# Altium integrated library Analog Devices Data Converters Analog-to-Digital Converters.IntLib: 2400 symbols (part 321 of 338)
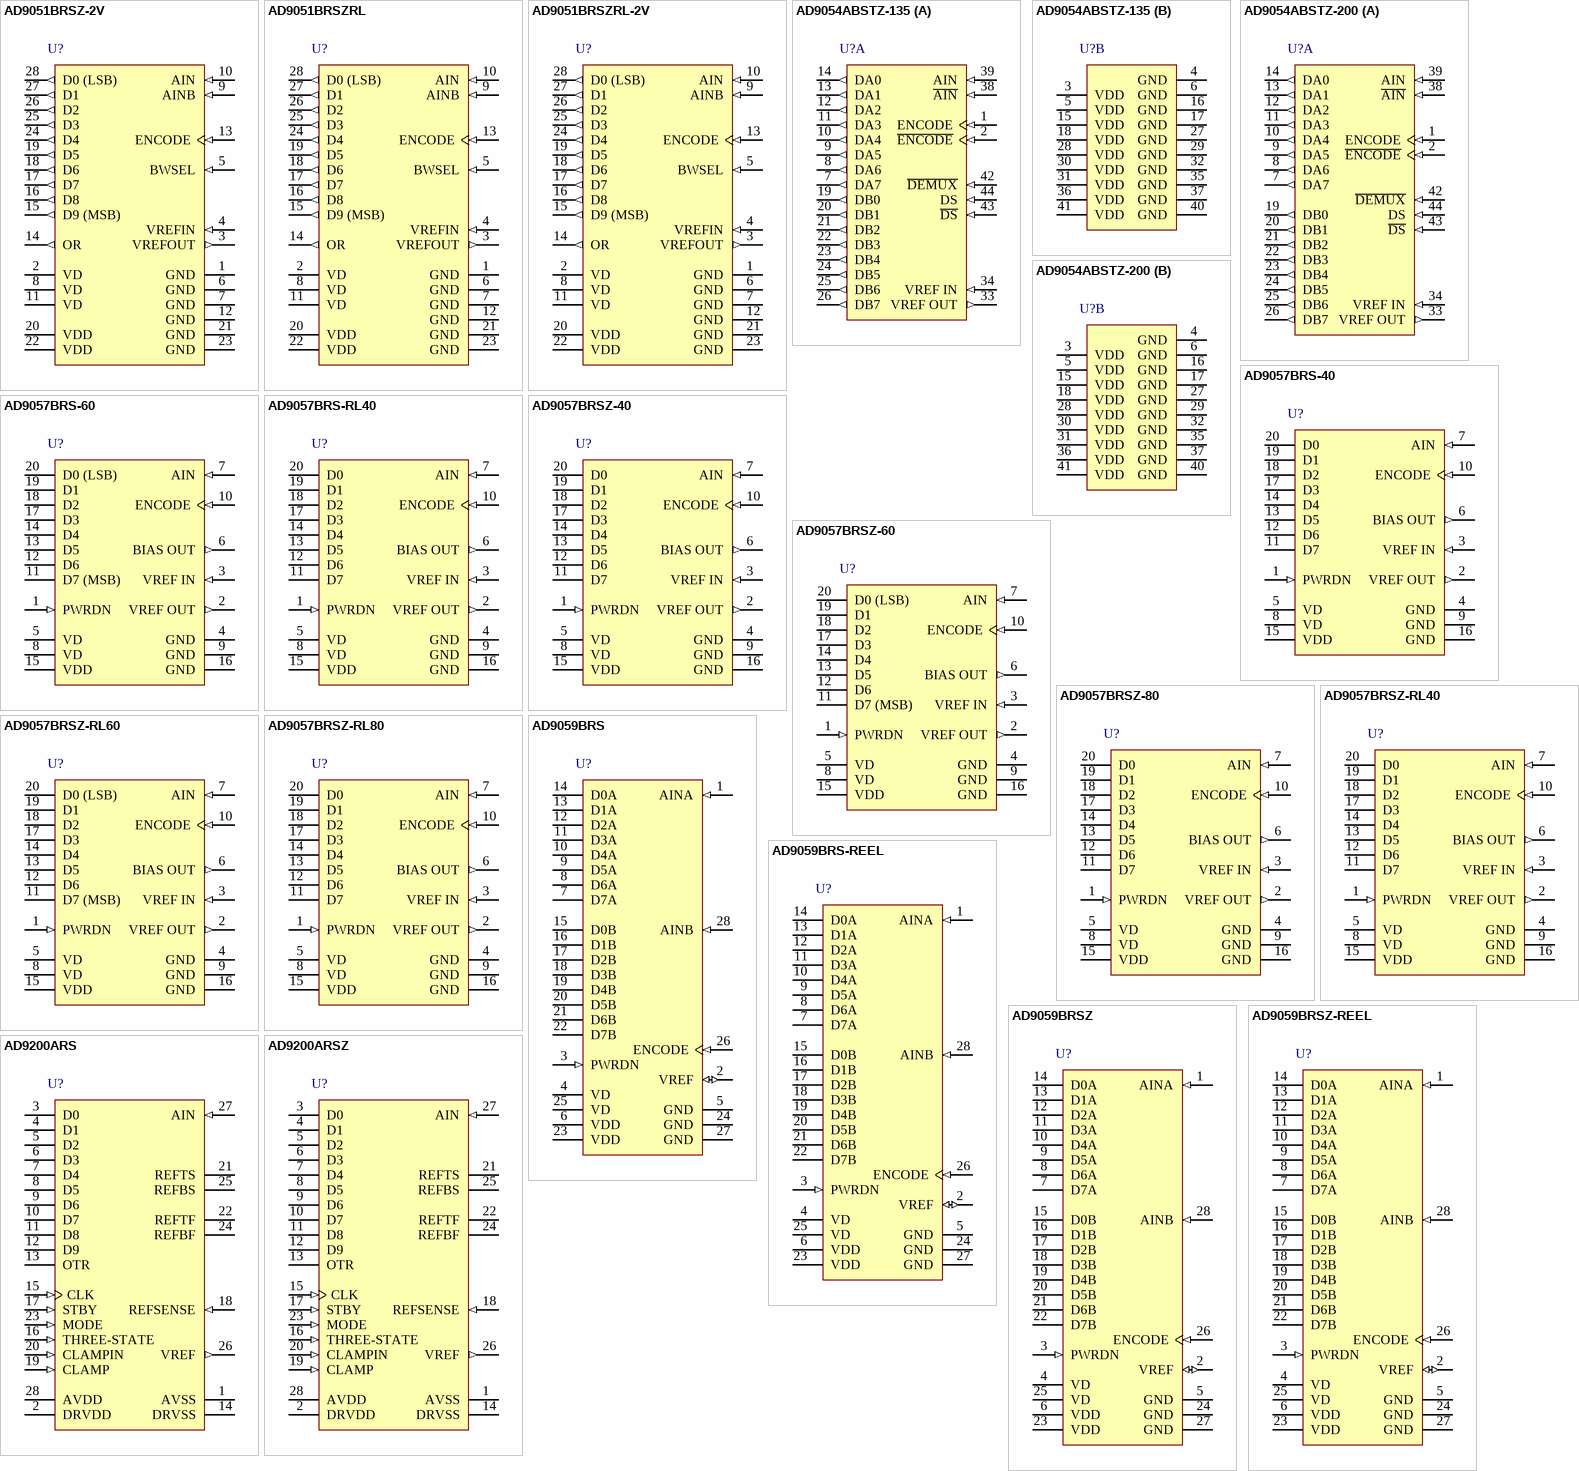
[diagram p330: symbols AD9051BRSZ-2V to AD9200ARSZ]

## AD9054ABSTZ-135
designator U?
Single 8-Bit Analog-to-Digital Converter with Parallel Interface, 135MSPS, -40 to +85 degC, ST-44-1, Pb-Free, Tray; Part Number: AD9054A-135; Manufacturer: Analog Devices; Resolution (Bits): 8; Channels: 1; Throughput Rate (SPS): 135M; Interface: Par; DatasheetVersion: Rev.D; PackageVersion: 051706-A; PackageReference: ST-44-1; PackageDescription: 44-Lead Low Profile Quad Flat Package [LQFP]; RoHS: Y; Packing: Tray; Mounting Technology: Surface Mount; ComponentLink1Description: Manufacturer URL; ComponentLink1URL: http://www.analog.com/en/index.html; ComponentLink2Description: Datasheet; ComponentLink2URL: http://www.analog.com/static/imported-files/data_sheets/AD9054A.pdf; ComponentLink3Description: Package Specification; ComponentLink3URL: http://www.analog.com/static/imported-files/packages/52366619645036ST_44_1.pdf; ComponentLink4Description: Product URL; ComponentLink4URL: http://www.analog.com/en/analog-to-digital-converters/ad-converters/ad9054a/products/product.html
footprint ST-44-1_N (Thin QFP, 44-Leads, Body 10x10mm, Pitch 0.8mm, IPC Medium Density)
footprint ST-44-1_L (Thin QFP, 44-Leads, Body 10x10mm, Pitch 0.8mm, IPC High Density)
footprint ST-44-1_M (Thin QFP, 44-Leads, Body 10x10mm, Pitch 0.8mm, IPC Low Density)
part A pins: 1 ENCODE (in) "Encode Clock for ADC (ADC Samples on Rising Edge of ENCODE)", 2 ~{ENCODE} (in) "Encode Clock Complement (ADC Samples on Falling Edge of E\N\C\O\D\E\)", 7 DA7 (out) "Digital Outputs of ADC Channel A. DA7 is the MSB, DA0 the LSB", 8 DA6 (out) "Digital Outputs of ADC Channel A. DA7 is the MSB, DA0 the LSB", 9 DA5 (out) "Digital Outputs of ADC Channel A. DA7 is the MSB, DA0 the LSB", 10 DA4 (out) "Digital Outputs of ADC Channel A. DA7 is the MSB, DA0 the LSB", 11 DA3 (out) "Digital Outputs of ADC Channel A. DA7 is the MSB, DA0 the LSB", 12 DA2 (out) "Digital Outputs of ADC Channel A. DA7 is the MSB, DA0 the LSB", 13 DA1 (out) "Digital Outputs of ADC Channel A. DA7 is the MSB, DA0 the LSB", 14 DA0 (out) "Digital Outputs of ADC Channel A. DA7 is the MSB, DA0 the LSB", 19 DB0 (out) "Digital Outputs of ADC Channel B. DB7 is the MSB, DB0 the LSB", 20 DB1 (out) "Digital Outputs of ADC Channel B. DB7 is the MSB, DB0 the LSB", 21 DB2 (out) "Digital Outputs of ADC Channel B. DB7 is the MSB, DB0 the LSB", 22 DB3 (out) "Digital Outputs of ADC Channel B. DB7 is the MSB, DB0 the LSB", 23 DB4 (out) "Digital Outputs of ADC Channel B. DB7 is the MSB, DB0 the LSB", 24 DB5 (out) "Digital Outputs of ADC Channel B. DB7 is the MSB, DB0 the LSB", 25 DB6 (out) "Digital Outputs of ADC Channel B. DB7 is the MSB, DB0 the LSB", 26 DB7 (out) "Digital Outputs of ADC Channel B. DB7 is the MSB, DB0 the LSB", 33 VREF OUT (out) "Internal Reference Output (2.5 V typical); Bypass with 0.1 uF to Ground", 34 VREF IN (in) "Reference Input for ADC (2.5 V typical, +/-4%)", 38 ~{AIN} (in) "Analog Input--Complement. Connect to input signal midscale reference.", 39 AIN (in) "Analog Input--True", 42 ~{DEMUX} (in) "Format Select. LOW = Dual. Channel Mode, HIGH = Single. Channel Mode (Channel A Only)", 43 ~{DS} (in) "Data Sync Complement", 44 DS (in) "Data Sync--Aligns Output Channels in Dual-Channel Mode"
part B pins: 3 VDD (power) "Power Supply (5 V)", 4 GND (power) "Ground", 5 VDD (power) "Power Supply (5 V)", 6 GND (power) "Ground", 15 VDD (power) "Power Supply (5 V)", 16 GND (power) "Ground", 17 GND (power) "Ground", 18 VDD (power) "Power Supply (5 V)", 27 GND (power) "Ground", 28 VDD (power) "Power Supply (5 V)", 29 GND (power) "Ground", 30 VDD (power) "Power Supply (5 V)", 31 VDD (power) "Power Supply (5 V)", 32 GND (power) "Ground", 35 GND (power) "Ground", 36 VDD (power) "Power Supply (5 V)", 37 GND (power) "Ground", 40 GND (power) "Ground", 41 VDD (power) "Power Supply (5 V)"

## AD9054ABSTZ-200
designator U?
Single 8-Bit Analog-to-Digital Converter with Parallel Interface, 200MSPS, -40 to +85 degC, ST-44-1, Pb-Free, Tray; Part Number: AD9054A-200; Manufacturer: Analog Devices; Resolution (Bits): 8; Channels: 1; Throughput Rate (SPS): 200M; Interface: Par; DatasheetVersion: Rev.D; PackageVersion: 051706-A; PackageReference: ST-44-1; PackageDescription: 44-Lead Low Profile Quad Flat Package [LQFP]; RoHS: Y; Packing: Tray; Mounting Technology: Surface Mount; ComponentLink1Description: Manufacturer URL; ComponentLink1URL: http://www.analog.com/en/index.html; ComponentLink2Description: Datasheet; ComponentLink2URL: http://www.analog.com/static/imported-files/data_sheets/AD9054A.pdf; ComponentLink3Description: Package Specification; ComponentLink3URL: http://www.analog.com/static/imported-files/packages/52366619645036ST_44_1.pdf; ComponentLink4Description: Product URL; ComponentLink4URL: http://www.analog.com/en/analog-to-digital-converters/ad-converters/ad9054a/products/product.html
footprint ST-44-1_N (Thin QFP, 44-Leads, Body 10x10mm, Pitch 0.8mm, IPC Medium Density)
footprint ST-44-1_L (Thin QFP, 44-Leads, Body 10x10mm, Pitch 0.8mm, IPC High Density)
footprint ST-44-1_M (Thin QFP, 44-Leads, Body 10x10mm, Pitch 0.8mm, IPC Low Density)
part A pins: 1 ENCODE (in) "Encode Clock for ADC (ADC Samples on Rising Edge of ENCODE)", 2 ~{ENCODE} (in) "Encode Clock Complement (ADC Samples on Falling Edge of E\N\C\O\D\E\)", 7 DA7 (out) "Digital Outputs of ADC Channel A. DA7 is the MSB.", 8 DA6 (out) "Digital Outputs of ADC Channel A.", 9 DA5 (out) "Digital Outputs of ADC Channel A.", 10 DA4 (out) "Digital Outputs of ADC Channel A.", 11 DA3 (out) "Digital Outputs of ADC Channel A.", 12 DA2 (out) "Digital Outputs of ADC Channel A.", 13 DA1 (out) "Digital Outputs of ADC Channel A.", 14 DA0 (out) "Digital Outputs of ADC Channel A. DA0 is the LSB.", 19 DB0 (out) "Digital Outputs of ADC Channel B. DB0 is the LSB", 20 DB1 (out) "Digital Outputs of ADC Channel B.", 21 DB2 (out) "Digital Outputs of ADC Channel B.", 22 DB3 (out) "Digital Outputs of ADC Channel B.", 23 DB4 (out) "Digital Outputs of ADC Channel B.", 24 DB5 (out) "Digital Outputs of ADC Channel B.", 25 DB6 (out) "Digital Outputs of ADC Channel B.", 26 DB7 (out) "Digital Outputs of ADC Channel B. DB7 is the MSB.", 33 VREF OUT (out) "Internal Reference Output (2.5 V typical); Bypass with 0.1 uF to Ground", 34 VREF IN (in) "Reference Input for ADC (2.5 V typical, +/-4%)", 38 ~{AIN} (in) "Analog Input--Complement. Connect to input signal midscale reference.", 39 AIN (in) "Analog Input--True", 42 ~{DEMUX} (in) "Format Select. LOW = Dual. Channel Mode, HIGH = Single. Channel Mode (Channel A Only)", 43 ~{DS} (in) "Data Sync Complement", 44 DS (in) "Data Sync--Aligns Output Channels in Dual-Channel Mode"
part B pins: 3 VDD (power) "Power Supply (5 V)", 4 GND (power) "Ground", 5 VDD (power) "Power Supply (5 V)", 6 GND (power) "Ground", 15 VDD (power) "Power Supply (5 V)", 16 GND (power) "Ground", 17 GND (power) "Ground", 18 VDD (power) "Power Supply (5 V)", 27 GND (power) "Ground", 28 VDD (power) "Power Supply (5 V)", 29 GND (power) "Ground", 30 VDD (power) "Power Supply (5 V)", 31 VDD (power) "Power Supply (5 V)", 32 GND (power) "Ground", 35 GND (power) "Ground", 36 VDD (power) "Power Supply (5 V)", 37 GND (power) "Ground", 40 GND (power) "Ground", 41 VDD (power) "Power Supply (5 V)"

## AD9057BRS-40
designator U?
Single 8-Bit Analog-to-Digital Converter with Parallel Interface, 40MSPS, 0 to +70 degC, RS-20, Tube; Part Number: AD9057-40; Manufacturer: Analog Devices; Resolution (Bits): 8; Channels: 1; Throughput Rate (SPS): 40M; Interface: Par; DatasheetVersion: Rev.D; PackageVersion: Mar-2003; PackageReference: RS-20; PackageDescription: 20-Lead Shrink Small Outline Package [SSOP]; RoHS: N; Packing: Tube; Mounting Technology: Surface Mount; Code_JEDEC: MO-150AE; ComponentLink1Description: Manufacturer URL; ComponentLink1URL: http://www.analog.com/en/index.html; ComponentLink2Description: Datasheet; ComponentLink2URL: http://www.analog.com/static/imported-files/data_sheets/AD9057.pdf; ComponentLink3Description: Package Specification; ComponentLink3URL: http://www.analog.com/static/imported-files/packages/318405805657546556503576154334802686596RS_20.pdf; ComponentLink4Description: Product URL; ComponentLink4URL: http://www.analog.com/en/analog-to-digital-converters/ad-converters/ad9057/products/product.html
footprint RS-20_N (SOP, 20-Leads, Body 7.2x5.3mm, Pitch 0.65mm, IPC Medium Density)
footprint RS-20_L (SOP, 20-Leads, Body 7.2x5.3mm, Pitch 0.65mm, IPC High Density)
footprint RS-20_M (SOP, 20-Leads, Body 7.2x5.3mm, Pitch 0.65mm, IPC Low Density)
pins: 1 PWRDN (in) "Power-Down Function Select;Logic High for Power-Down Mode (Digital Outputs Go to High Impedance State).", 2 VREF OUT (out) "Internal Reference Output (2.5 V typ); Bypass with 0.1 uF to Ground.", 3 VREF IN (in) "Reference Input for ADC (2.5 V typ, +/-10%).", 4 GND (power) "Ground (Analog/Digital).", 5 VD (power) "Analog 5 V Power Supply.", 6 BIAS OUT (out) "Bias Pin for AC Coupling (1 kW to REF IN)", 7 AIN (in) "Analog Input for ADC.", 8 VD (power) "Analog 5 V Power Supply.", 9 GND (power) "Ground (Analog/Digital).", 10 ENCODE (in) "Encode Clock for ADC (ADC Samples on Rising Edge of Encode).", 11 D7 (hiz) "Digital Outputs of ADC.", 12 D6 (hiz) "Digital Outputs of ADC", 13 D5 (hiz) "Digital Outputs of ADC", 14 D4 (hiz) "Digital Outputs of ADC", 15 VDD (power) "Digital Output Power Supply; Nominally 3 V to 5 V.", 16 GND (power) "Ground (Analog/Digital).", 17 D3 (hiz) "Digital Outputs of ADC", 18 D2 (hiz) "Digital Outputs of ADC", 19 D1 (hiz) "Digital Outputs of ADC", 20 D0 (hiz) "Digital Outputs of ADC"

## AD9057BRS-60
designator U?
Single 8-Bit Analog-to-Digital Converter with Parallel Interface, 60MSPS, -40 to +85 degC, RS-20, Tube; Part Number: AD9057-60; Manufacturer: Analog Devices; Resolution (Bits): 8; Channels: 1; Throughput Rate (SPS): 60M; Interface: Par; DatasheetVersion: Rev.D; PackageVersion: Mar-2003; PackageReference: RS-20; PackageDescription: 20-Lead Shrink Small Outline Package [SSOP]; RoHS: N; Packing: Tube; Mounting Technology: Surface Mount; Code_JEDEC: MO-150AE; ComponentLink1Description: Manufacturer URL; ComponentLink1URL: http://www.analog.com/en/index.html; ComponentLink2Description: Datasheet; ComponentLink2URL: http://www.analog.com/static/imported-files/data_sheets/AD9057.pdf; ComponentLink3Description: Package Specification; ComponentLink3URL: http://www.analog.com/static/imported-files/packages/318405805657546556503576154334802686596RS_20.pdf; ComponentLink4Description: Product URL; ComponentLink4URL: http://www.analog.com/en/analog-to-digital-converters/ad-converters/ad9057/products/product.html
footprint RS-20_N (SOP, 20-Leads, Body 7.2x5.3mm, Pitch 0.65mm, IPC Medium Density)
footprint RS-20_L (SOP, 20-Leads, Body 7.2x5.3mm, Pitch 0.65mm, IPC High Density)
footprint RS-20_M (SOP, 20-Leads, Body 7.2x5.3mm, Pitch 0.65mm, IPC Low Density)
pins: 1 PWRDN (in) "Power-Down Function Select;Logic High for Power-Down Mode (Digital Outputs Go to High Impedance State).", 2 VREF OUT (out) "Internal Reference Output (2.5 V typ); Bypass with 0.1 uF to Ground.", 3 VREF IN (in) "Reference Input for ADC (2.5 V typ, +/-10%).", 4 GND (power) "Ground (Analog/Digital).", 5 VD (power) "Analog 5 V Power Supply.", 6 BIAS OUT (out) "Bias Pin for AC Coupling (1 kW to REF IN).", 7 AIN (in) "Analog Input for ADC.", 8 VD (power) "Analog 5 V Power Supply", 9 GND (power) "Ground (Analog/Digital).", 10 ENCODE (in) "Encode Clock for ADC (ADC Samples on Rising Edge of Encode).", 11 D7 (MSB) (hiz) "Digital Outputs of ADC.", 12 D6 (hiz) "Digital Outputs of ADC.", 13 D5 (hiz) "Digital Outputs of ADC.", 14 D4 (hiz) "Digital Outputs of ADC.", 15 VDD (power) "Digital Output Power Supply;Nominally 3 V to 5 V.", 16 GND (power) "Ground (Analog/Digital).", 17 D3 (hiz) "Digital Outputs of ADC.", 18 D2 (hiz) "Digital Outputs of ADC.", 19 D1 (hiz) "Digital Outputs of ADC.", 20 D0 (LSB) (hiz) "Digital Outputs of ADC."

## AD9057BRS-RL40
designator U?
Single 8-Bit Analog-to-Digital Converter with Parallel Interface, 40MSPS, -40 to +85 degC, RS-20, Reel; Part Number: AD9057-40; Manufacturer: Analog Devices; Resolution (Bits): 8; Channels: 1; Throughput Rate (SPS): 40M; Interface: Par; DatasheetVersion: Rev.D; PackageVersion: Mar-2003; PackageReference: RS-20; PackageDescription: 20-Lead Shrink Small Outline Package [SSOP]; RoHS: N; Packing: Reel; Mounting Technology: Surface Mount; Code_JEDEC: MO-150AE; ComponentLink1Description: Manufacturer URL; ComponentLink1URL: http://www.analog.com/en/index.html; ComponentLink2Description: Datasheet; ComponentLink2URL: http://www.analog.com/static/imported-files/data_sheets/AD9057.pdf; ComponentLink3Description: Package Specification; ComponentLink3URL: http://www.analog.com/static/imported-files/packages/318405805657546556503576154334802686596RS_20.pdf; ComponentLink4Description: Product URL; ComponentLink4URL: http://www.analog.com/en/analog-to-digital-converters/ad-converters/ad9057/products/product.html
footprint RS-20_N (SOP, 20-Leads, Body 7.2x5.3mm, Pitch 0.65mm, IPC Medium Density)
footprint RS-20_L (SOP, 20-Leads, Body 7.2x5.3mm, Pitch 0.65mm, IPC High Density)
footprint RS-20_M (SOP, 20-Leads, Body 7.2x5.3mm, Pitch 0.65mm, IPC Low Density)
pins: 1 PWRDN (in) "Power-Down Function Select;Logic High for Power-Down Mode (Digital Outputs Go to High Impedance State).", 2 VREF OUT (out) "Internal Reference Output (2.5 V typ); Bypass with 0.1 uF to Ground.", 3 VREF IN (in) "Reference Input for ADC (2.5 V typ, +/-10%).", 4 GND (power) "Ground (Analog/Digital).", 5 VD (power) "Analog 5 V Power Supply.", 6 BIAS OUT (out) "Bias Pin for AC Coupling (1 kW to REF IN)", 7 AIN (in) "Analog Input for ADC.", 8 VD (power) "Analog 5 V Power Supply.", 9 GND (power) "Ground (Analog/Digital).", 10 ENCODE (in) "Encode Clock for ADC (ADC Samples on Rising Edge of Encode).", 11 D7 (hiz) "Digital Outputs of ADC.", 12 D6 (hiz) "Digital Outputs of ADC", 13 D5 (hiz) "Digital Outputs of ADC", 14 D4 (hiz) "Digital Outputs of ADC", 15 VDD (power) "Digital Output Power Supply; Nominally 3 V to 5 V.", 16 GND (power) "Ground (Analog/Digital).", 17 D3 (hiz) "Digital Outputs of ADC", 18 D2 (hiz) "Digital Outputs of ADC", 19 D1 (hiz) "Digital Outputs of ADC", 20 D0 (hiz) "Digital Outputs of ADC"

## AD9057BRSZ-40
designator U?
Single 8-Bit Analog-to-Digital Converter with Parallel Interface, 40MSPS, -40 to +85 degC, RS-20, Pb-Free, Tube; Part Number: AD9057-40; Manufacturer: Analog Devices; Resolution (Bits): 8; Channels: 1; Throughput Rate (SPS): 40M; Interface: Par; DatasheetVersion: Rev.D; PackageVersion: Mar-2003; PackageReference: RS-20; PackageDescription: 20-Lead Shrink Small Outline Package [SSOP]; RoHS: Y; Packing: Tube; Mounting Technology: Surface Mount; Code_JEDEC: MO-150AE; ComponentLink1Description: Manufacturer URL; ComponentLink1URL: http://www.analog.com/en/index.html; ComponentLink2Description: Datasheet; ComponentLink2URL: http://www.analog.com/static/imported-files/data_sheets/AD9057.pdf; ComponentLink3Description: Package Specification; ComponentLink3URL: http://www.analog.com/static/imported-files/packages/318405805657546556503576154334802686596RS_20.pdf; ComponentLink4Description: Product URL; ComponentLink4URL: http://www.analog.com/en/analog-to-digital-converters/ad-converters/ad9057/products/product.html
footprint RS-20_N (SOP, 20-Leads, Body 7.2x5.3mm, Pitch 0.65mm, IPC Medium Density)
footprint RS-20_L (SOP, 20-Leads, Body 7.2x5.3mm, Pitch 0.65mm, IPC High Density)
footprint RS-20_M (SOP, 20-Leads, Body 7.2x5.3mm, Pitch 0.65mm, IPC Low Density)
pins: 1 PWRDN (in) "Power-Down Function Select;Logic High for Power-Down Mode (Digital Outputs Go to High Impedance State).", 2 VREF OUT (out) "Internal Reference Output (2.5 V typ); Bypass with 0.1 uF to Ground.", 3 VREF IN (in) "Reference Input for ADC (2.5 V typ, +/-10%).", 4 GND (power) "Ground (Analog/Digital).", 5 VD (power) "Analog 5 V Power Supply.", 6 BIAS OUT (out) "Bias Pin for AC Coupling (1 kW to REF IN)", 7 AIN (in) "Analog Input for ADC.", 8 VD (power) "Analog 5 V Power Supply.", 9 GND (power) "Ground (Analog/Digital).", 10 ENCODE (in) "Encode Clock for ADC (ADC Samples on Rising Edge of Encode).", 11 D7 (hiz) "Digital Outputs of ADC.", 12 D6 (hiz) "Digital Outputs of ADC", 13 D5 (hiz) "Digital Outputs of ADC", 14 D4 (hiz) "Digital Outputs of ADC", 15 VDD (power) "Digital Output Power Supply; Nominally 3 V to 5 V.", 16 GND (power) "Ground (Analog/Digital).", 17 D3 (hiz) "Digital Outputs of ADC", 18 D2 (hiz) "Digital Outputs of ADC", 19 D1 (hiz) "Digital Outputs of ADC", 20 D0 (hiz) "Digital Outputs of ADC"

## AD9057BRSZ-60
designator U?
Single 8-Bit Analog-to-Digital Converter with Parallel Interface, 60MSPS, -40 to +85 degC, RS-20, Pb-Free, Tube; Part Number: AD9057-60; Manufacturer: Analog Devices; Resolution (Bits): 8; Channels: 1; Throughput Rate (SPS): 60M; Interface: Par; DatasheetVersion: Rev.D; PackageVersion: Mar-2003; PackageReference: RS-20; PackageDescription: 20-Lead Shrink Small Outline Package [SSOP]; RoHS: Y; Packing: Tube; Mounting Technology: Surface Mount; Code_JEDEC: MO-150AE; ComponentLink1Description: Manufacturer URL; ComponentLink1URL: http://www.analog.com/en/index.html; ComponentLink2Description: Datasheet; ComponentLink2URL: http://www.analog.com/static/imported-files/data_sheets/AD9057.pdf; ComponentLink3Description: Package Specification; ComponentLink3URL: http://www.analog.com/static/imported-files/packages/318405805657546556503576154334802686596RS_20.pdf; ComponentLink4Description: Product URL; ComponentLink4URL: http://www.analog.com/en/analog-to-digital-converters/ad-converters/ad9057/products/product.html
footprint RS-20_N (SOP, 20-Leads, Body 7.2x5.3mm, Pitch 0.65mm, IPC Medium Density)
footprint RS-20_L (SOP, 20-Leads, Body 7.2x5.3mm, Pitch 0.65mm, IPC High Density)
footprint RS-20_M (SOP, 20-Leads, Body 7.2x5.3mm, Pitch 0.65mm, IPC Low Density)
pins: 1 PWRDN (in) "Power-Down Function Select;Logic High for Power-Down Mode (Digital Outputs Go to High Impedance State).", 2 VREF OUT (out) "Internal Reference Output (2.5 V typ); Bypass with 0.1 uF to Ground.", 3 VREF IN (in) "Reference Input for ADC (2.5 V typ, +/-10%).", 4 GND (power) "Ground (Analog/Digital).", 5 VD (power) "Analog 5 V Power Supply.", 6 BIAS OUT (out) "Bias Pin for AC Coupling (1 kW to REF IN).", 7 AIN (in) "Analog Input for ADC.", 8 VD (power) "Analog 5 V Power Supply", 9 GND (power) "Ground (Analog/Digital).", 10 ENCODE (in) "Encode Clock for ADC (ADC Samples on Rising Edge of Encode).", 11 D7 (MSB) (hiz) "Digital Outputs of ADC.", 12 D6 (hiz) "Digital Outputs of ADC.", 13 D5 (hiz) "Digital Outputs of ADC.", 14 D4 (hiz) "Digital Outputs of ADC.", 15 VDD (power) "Digital Output Power Supply;Nominally 3 V to 5 V.", 16 GND (power) "Ground (Analog/Digital).", 17 D3 (hiz) "Digital Outputs of ADC.", 18 D2 (hiz) "Digital Outputs of ADC.", 19 D1 (hiz) "Digital Outputs of ADC.", 20 D0 (LSB) (hiz) "Digital Outputs of ADC."

## AD9057BRSZ-80
designator U?
Single 8-Bit Analog-to-Digital Converter with Parallel Interface, 80MSPS, -40 to +85 degC, RS-20, Pb-Free, Tube; Part Number: AD9057-80; Manufacturer: Analog Devices; Resolution (Bits): 8; Channels: 1; Throughput Rate (SPS): 80M; Interface: Par; DatasheetVersion: Rev.D; PackageVersion: Mar-2003; PackageReference: RS-20; PackageDescription: 20-Lead Shrink Small Outline Package [SSOP]; RoHS: Y; Packing: Tube; Mounting Technology: Surface Mount; Code_JEDEC: MO-150AE; ComponentLink1Description: Manufacturer URL; ComponentLink1URL: http://www.analog.com/en/index.html; ComponentLink2Description: Datasheet; ComponentLink2URL: http://www.analog.com/static/imported-files/data_sheets/AD9057.pdf; ComponentLink3Description: Package Specification; ComponentLink3URL: http://www.analog.com/static/imported-files/packages/318405805657546556503576154334802686596RS_20.pdf; ComponentLink4Description: Product URL; ComponentLink4URL: http://www.analog.com/en/analog-to-digital-converters/ad-converters/ad9057/products/product.html
footprint RS-20_N (SOP, 20-Leads, Body 7.2x5.3mm, Pitch 0.65mm, IPC Medium Density)
footprint RS-20_L (SOP, 20-Leads, Body 7.2x5.3mm, Pitch 0.65mm, IPC High Density)
footprint RS-20_M (SOP, 20-Leads, Body 7.2x5.3mm, Pitch 0.65mm, IPC Low Density)
pins: 1 PWRDN (in) "Power-Down Function Select;Logic High for Power-DownMode (Digital Outputs Go toHigh Impedance State).", 2 VREF OUT (out) "Internal Reference Output(2.5 V typ); Bypass with 0.1 uFto Ground.", 3 VREF IN (in) "Reference Input for ADC (2.5 Vtyp, +/-10%).", 4 GND (power) "Ground (Analog/Digital).", 5 VD (power) "Analog 5 V Power Supply.", 6 BIAS OUT (out) "Bias Pin for AC Coupling (1 k ohm to REF IN).", 7 AIN (in) "Analog Input for ADC.", 8 VD (power) "Analog 5 V Power Supply.", 9 GND (power) "Ground (Analog/Digital).", 10 ENCODE (in) "Encode Clock for ADC (ADCS amples on Rising Edge of Encode).", 11 D7 (hiz) "Digital Outputs of ADC.", 12 D6 (hiz) "Digital Outputs of ADC.", 13 D5 (hiz) "Digital Outputs of ADC.", 14 D4 (hiz) "Digital Outputs of ADC.", 15 VDD (power) "Digital Output Power Supply; Nominally 3 V to 5 V.", 16 GND (power) "Ground (Analog/Digital).", 17 D3 (hiz) "Digital Outputs of ADC.", 18 D2 (hiz) "Digital Outputs of ADC.", 19 D1 (hiz) "Digital Outputs of ADC.", 20 D0 (hiz) "Digital Outputs of ADC."

## AD9057BRSZ-RL40
designator U?
Single 8-Bit Analog-to-Digital Converter with Parallel Interface, 40MSPS, -40 to +85 degC, RS-20, Pb-Free, Reel; Part Number: AD9057-40; Manufacturer: Analog Devices; Resolution (Bits): 8; Channels: 1; Throughput Rate (SPS): 40M; Interface: Par; DatasheetVersion: Rev.D; PackageVersion: Mar-2003; PackageReference: RS-20; PackageDescription: 20-Lead Shrink Small Outline Package [SSOP]; RoHS: Y; Packing: Reel; Mounting Technology: Surface Mount; Code_JEDEC: MO-150AE; ComponentLink1Description: Manufacturer URL; ComponentLink1URL: http://www.analog.com/en/index.html; ComponentLink2Description: Datasheet; ComponentLink2URL: http://www.analog.com/static/imported-files/data_sheets/AD9057.pdf; ComponentLink3Description: Package Specification; ComponentLink3URL: http://www.analog.com/static/imported-files/packages/318405805657546556503576154334802686596RS_20.pdf; ComponentLink4Description: Product URL; ComponentLink4URL: http://www.analog.com/en/analog-to-digital-converters/ad-converters/ad9057/products/product.html
footprint RS-20_N (SOP, 20-Leads, Body 7.2x5.3mm, Pitch 0.65mm, IPC Medium Density)
footprint RS-20_L (SOP, 20-Leads, Body 7.2x5.3mm, Pitch 0.65mm, IPC High Density)
footprint RS-20_M (SOP, 20-Leads, Body 7.2x5.3mm, Pitch 0.65mm, IPC Low Density)
pins: 1 PWRDN (in) "Power-Down Function Select;Logic High for Power-Down Mode (Digital Outputs Go to High Impedance State).", 2 VREF OUT (out) "Internal Reference Output (2.5 V typ); Bypass with 0.1 uF to Ground.", 3 VREF IN (in) "Reference Input for ADC (2.5 V typ, +/-10%).", 4 GND (power) "Ground (Analog/Digital).", 5 VD (power) "Analog 5 V Power Supply.", 6 BIAS OUT (out) "Bias Pin for AC Coupling (1 kW to REF IN)", 7 AIN (in) "Analog Input for ADC.", 8 VD (power) "Analog 5 V Power Supply.", 9 GND (power) "Ground (Analog/Digital).", 10 ENCODE (in) "Encode Clock for ADC (ADC Samples on Rising Edge of Encode).", 11 D7 (hiz) "Digital Outputs of ADC.", 12 D6 (hiz) "Digital Outputs of ADC", 13 D5 (hiz) "Digital Outputs of ADC", 14 D4 (hiz) "Digital Outputs of ADC", 15 VDD (power) "Digital Output Power Supply; Nominally 3 V to 5 V.", 16 GND (power) "Ground (Analog/Digital).", 17 D3 (hiz) "Digital Outputs of ADC", 18 D2 (hiz) "Digital Outputs of ADC", 19 D1 (hiz) "Digital Outputs of ADC", 20 D0 (hiz) "Digital Outputs of ADC"

## AD9057BRSZ-RL60
designator U?
Single 8-Bit Analog-to-Digital Converter with Parallel Interface, 60MSPS, -40 to +85 degC, RS-20, Pb-Free, Reel; Part Number: AD9057-60; Manufacturer: Analog Devices; Resolution (Bits): 8; Channels: 1; Throughput Rate (SPS): 60M; Interface: Par; DatasheetVersion: Rev.D; PackageVersion: Mar-2003; PackageReference: RS-20; PackageDescription: 20-Lead Shrink Small Outline Package [SSOP]; RoHS: Y; Packing: Reel; Mounting Technology: Surface Mount; Code_JEDEC: MO-150AE; ComponentLink1Description: Manufacturer URL; ComponentLink1URL: http://www.analog.com/en/index.html; ComponentLink2Description: Datasheet; ComponentLink2URL: http://www.analog.com/static/imported-files/data_sheets/AD9057.pdf; ComponentLink3Description: Package Specification; ComponentLink3URL: http://www.analog.com/static/imported-files/packages/318405805657546556503576154334802686596RS_20.pdf; ComponentLink4Description: Product URL; ComponentLink4URL: http://www.analog.com/en/analog-to-digital-converters/ad-converters/ad9057/products/product.html
footprint RS-20_N (SOP, 20-Leads, Body 7.2x5.3mm, Pitch 0.65mm, IPC Medium Density)
footprint RS-20_L (SOP, 20-Leads, Body 7.2x5.3mm, Pitch 0.65mm, IPC High Density)
footprint RS-20_M (SOP, 20-Leads, Body 7.2x5.3mm, Pitch 0.65mm, IPC Low Density)
pins: 1 PWRDN (in) "Power-Down Function Select;Logic High for Power-Down Mode (Digital Outputs Go to High Impedance State).", 2 VREF OUT (out) "Internal Reference Output (2.5 V typ); Bypass with 0.1 uF to Ground.", 3 VREF IN (in) "Reference Input for ADC (2.5 V typ, +/-10%).", 4 GND (power) "Ground (Analog/Digital).", 5 VD (power) "Analog 5 V Power Supply.", 6 BIAS OUT (out) "Bias Pin for AC Coupling (1 kW to REF IN).", 7 AIN (in) "Analog Input for ADC.", 8 VD (power) "Analog 5 V Power Supply", 9 GND (power) "Ground (Analog/Digital).", 10 ENCODE (in) "Encode Clock for ADC (ADC Samples on Rising Edge of Encode).", 11 D7 (MSB) (hiz) "Digital Outputs of ADC.", 12 D6 (hiz) "Digital Outputs of ADC.", 13 D5 (hiz) "Digital Outputs of ADC.", 14 D4 (hiz) "Digital Outputs of ADC.", 15 VDD (power) "Digital Output Power Supply;Nominally 3 V to 5 V.", 16 GND (power) "Ground (Analog/Digital).", 17 D3 (hiz) "Digital Outputs of ADC.", 18 D2 (hiz) "Digital Outputs of ADC.", 19 D1 (hiz) "Digital Outputs of ADC.", 20 D0 (LSB) (hiz) "Digital Outputs of ADC."

## AD9057BRSZ-RL80
designator U?
Single 8-Bit Analog-to-Digital Converter with Parallel Interface, 80MSPS, -40 to +85 degC, RS-20, Pb-Free, Reel; Part Number: AD9057-80; Manufacturer: Analog Devices; Resolution (Bits): 8; Channels: 1; Throughput Rate (SPS): 80M; Interface: Par; DatasheetVersion: Rev.D; PackageVersion: Mar-2003; PackageReference: RS-20; PackageDescription: 20-Lead Shrink Small Outline Package [SSOP]; RoHS: Y; Packing: Reel; Mounting Technology: Surface Mount; Code_JEDEC: MO-150AE; ComponentLink1Description: Manufacturer URL; ComponentLink1URL: http://www.analog.com/en/index.html; ComponentLink2Description: Datasheet; ComponentLink2URL: http://www.analog.com/static/imported-files/data_sheets/AD9057.pdf; ComponentLink3Description: Package Specification; ComponentLink3URL: http://www.analog.com/static/imported-files/packages/318405805657546556503576154334802686596RS_20.pdf; ComponentLink4Description: Product URL; ComponentLink4URL: http://www.analog.com/en/analog-to-digital-converters/ad-converters/ad9057/products/product.html
footprint RS-20_N (SOP, 20-Leads, Body 7.2x5.3mm, Pitch 0.65mm, IPC Medium Density)
footprint RS-20_L (SOP, 20-Leads, Body 7.2x5.3mm, Pitch 0.65mm, IPC High Density)
footprint RS-20_M (SOP, 20-Leads, Body 7.2x5.3mm, Pitch 0.65mm, IPC Low Density)
pins: 1 PWRDN (in) "Power-Down Function Select;Logic High for Power-DownMode (Digital Outputs Go toHigh Impedance State).", 2 VREF OUT (out) "Internal Reference Output(2.5 V typ); Bypass with 0.1 uFto Ground.", 3 VREF IN (in) "Reference Input for ADC (2.5 Vtyp, +/-10%).", 4 GND (power) "Ground (Analog/Digital).", 5 VD (power) "Analog 5 V Power Supply.", 6 BIAS OUT (out) "Bias Pin for AC Coupling (1 k ohm to REF IN).", 7 AIN (in) "Analog Input for ADC.", 8 VD (power) "Analog 5 V Power Supply.", 9 GND (power) "Ground (Analog/Digital).", 10 ENCODE (in) "Encode Clock for ADC (ADCS amples on Rising Edge of Encode).", 11 D7 (hiz) "Digital Outputs of ADC.", 12 D6 (hiz) "Digital Outputs of ADC.", 13 D5 (hiz) "Digital Outputs of ADC.", 14 D4 (hiz) "Digital Outputs of ADC.", 15 VDD (power) "Digital Output Power Supply; Nominally 3 V to 5 V.", 16 GND (power) "Ground (Analog/Digital).", 17 D3 (hiz) "Digital Outputs of ADC.", 18 D2 (hiz) "Digital Outputs of ADC.", 19 D1 (hiz) "Digital Outputs of ADC.", 20 D0 (hiz) "Digital Outputs of ADC."

## AD9059BRS
designator U?
Dual 8-Bit Analog-to-Digital Converter with Parallel Interface, 60MSPS, -40 to +85 degC, RS-28, Tube; Part Number: AD9059; Manufacturer: Analog Devices; Resolution (Bits): 8; Channels: 2; Throughput Rate (SPS): 60M; Interface: Par; DatasheetVersion: Rev.A; PackageVersion: 060106-A; PackageReference: RS-28; PackageDescription: 28-Lead Shrink Small Outline Package [SSOP]; RoHS: N; Packing: Tube; Mounting Technology: Surface Mount; Code_JEDEC: MO-150-AH; ComponentLink1Description: Manufacturer URL; ComponentLink1URL: http://www.analog.com/en/index.html; ComponentLink2Description: Datasheet; ComponentLink2URL: http://www.analog.com/static/imported-files/data_sheets/AD9059.pdf; ComponentLink3Description: Package Specification; ComponentLink3URL: http://www.analog.com/static/imported-files/packages/32122249223724RS_28.pdf; ComponentLink4Description: Product URL; ComponentLink4URL: http://www.analog.com/en/analog-to-digital-converters/ad-converters/ad9059/products/product.html
footprint RS-28_N (SOP, 28-Leads, Body 10.2x5.3mm, Pitch 0.65mm, IPC Medium Density)
footprint RS-28_L (SOP, 28-Leads, Body 10.2x5.3mm, Pitch 0.65mm, IPC High Density)
footprint RS-28_M (SOP, 28-Leads, Body 10.2x5.3mm, Pitch 0.65mm, IPC Low Density)
pins: 1 AINA (in) "Analog Inputs for ADC A and B.", 2 VREF (io) "Internal Voltage Reference (2.5 V Typical); Bypass with 0.1 uF to Ground or Overdrive with External Voltage Reference.", 3 PWRDN (in) "Power-Down Function Select; Logic HIGH for Power-Down Mode (Digital Outputs Go to High-Impedance State).", 4 VD (power) "Analog 5 V Power Supply.", 5 GND (power) "Ground.", 6 VDD (power) "Digital Output Power Supply.Nominally 3 V to 5 V.", 7 D7A (hiz) "Digital Outputs of ADC A.", 8 D6A (hiz) "Digital Outputs of ADC A.", 9 D5A (hiz) "Digital Outputs of ADC A.", 10 D4A (hiz) "Digital Outputs of ADC A.", 11 D3A (hiz) "Digital Outputs of ADC A.", 12 D2A (hiz) "Digital Outputs of ADC A.", 13 D1A (hiz) "Digital Outputs of ADC A.", 14 D0A (hiz) "Digital Outputs of ADC A.", 15 D0B (hiz) "Digital Outputs of ADC B.", 16 D1B (hiz) "Digital Outputs of ADC B.", 17 D2B (hiz) "Digital Outputs of ADC B.", 18 D3B (hiz) "Digital Outputs of ADC B.", 19 D4B (hiz) "Digital Outputs of ADC B.", 20 D5B (hiz) "Digital Outputs of ADC B.", 21 D6B (hiz) "Digital Outputs of ADC B.", 22 D7B (hiz) "Digital Outputs of ADC B.", 23 VDD (power) "Digital Output Power Supply.Nominally 3 V to 5 V.", 24 GND (power) "Ground.", 25 VD (power) "Analog 5 V Power Supply.", 26 ENCODE (in) "Encode Clock for ADCs A and B (ADCs Sample Simultaneously on the Rising Edge of ENCODE).", 27 GND (power) "Ground.", 28 AINB (in) "Analog Inputs for ADC A and B."

## AD9059BRS-REEL
designator U?
Dual 8-Bit Analog-to-Digital Converter with Parallel Interface, 60MSPS, -40 to +85 degC, RS-28, Reel; Part Number: AD9059; Manufacturer: Analog Devices; Resolution (Bits): 8; Channels: 2; Throughput Rate (SPS): 60M; Interface: Par; DatasheetVersion: Rev.A; PackageVersion: 060106-A; PackageReference: RS-28; PackageDescription: 28-Lead Shrink Small Outline Package [SSOP]; RoHS: N; Packing: Reel; Mounting Technology: Surface Mount; Code_JEDEC: MO-150-AH; ComponentLink1Description: Manufacturer URL; ComponentLink1URL: http://www.analog.com/en/index.html; ComponentLink2Description: Datasheet; ComponentLink2URL: http://www.analog.com/static/imported-files/data_sheets/AD9059.pdf; ComponentLink3Description: Package Specification; ComponentLink3URL: http://www.analog.com/static/imported-files/packages/32122249223724RS_28.pdf; ComponentLink4Description: Product URL; ComponentLink4URL: http://www.analog.com/en/analog-to-digital-converters/ad-converters/ad9059/products/product.html
footprint RS-28_N (SOP, 28-Leads, Body 10.2x5.3mm, Pitch 0.65mm, IPC Medium Density)
footprint RS-28_L (SOP, 28-Leads, Body 10.2x5.3mm, Pitch 0.65mm, IPC High Density)
footprint RS-28_M (SOP, 28-Leads, Body 10.2x5.3mm, Pitch 0.65mm, IPC Low Density)
pins: 1 AINA (in) "Analog Inputs for ADC A and B.", 2 VREF (io) "Internal Voltage Reference (2.5 V Typical); Bypass with 0.1 uF to Ground or Overdrive with External Voltage Reference.", 3 PWRDN (in) "Power-Down Function Select; Logic HIGH for Power-Down Mode (Digital Outputs Go to High-Impedance State).", 4 VD (power) "Analog 5 V Power Supply.", 5 GND (power) "Ground.", 6 VDD (power) "Digital Output Power Supply.Nominally 3 V to 5 V.", 7 D7A (hiz) "Digital Outputs of ADC A.", 8 D6A (hiz) "Digital Outputs of ADC A.", 9 D5A (hiz) "Digital Outputs of ADC A.", 10 D4A (hiz) "Digital Outputs of ADC A.", 11 D3A (hiz) "Digital Outputs of ADC A.", 12 D2A (hiz) "Digital Outputs of ADC A.", 13 D1A (hiz) "Digital Outputs of ADC A.", 14 D0A (hiz) "Digital Outputs of ADC A.", 15 D0B (hiz) "Digital Outputs of ADC B.", 16 D1B (hiz) "Digital Outputs of ADC B.", 17 D2B (hiz) "Digital Outputs of ADC B.", 18 D3B (hiz) "Digital Outputs of ADC B.", 19 D4B (hiz) "Digital Outputs of ADC B.", 20 D5B (hiz) "Digital Outputs of ADC B.", 21 D6B (hiz) "Digital Outputs of ADC B.", 22 D7B (hiz) "Digital Outputs of ADC B.", 23 VDD (power) "Digital Output Power Supply.Nominally 3 V to 5 V.", 24 GND (power) "Ground.", 25 VD (power) "Analog 5 V Power Supply.", 26 ENCODE (in) "Encode Clock for ADCs A and B (ADCs Sample Simultaneously on the Rising Edge of ENCODE).", 27 GND (power) "Ground.", 28 AINB (in) "Analog Inputs for ADC A and B."

## AD9059BRSZ
designator U?
Dual 8-Bit Analog-to-Digital Converter with Parallel Interface, 60MSPS, -40 to +85 degC, RS-28, Pb-Free, Tube; Part Number: AD9059; Manufacturer: Analog Devices; Resolution (Bits): 8; Channels: 2; Throughput Rate (SPS): 60M; Interface: Par; DatasheetVersion: Rev.A; PackageVersion: 060106-A; PackageReference: RS-28; PackageDescription: 28-Lead Shrink Small Outline Package [SSOP]; RoHS: Y; Packing: Tube; Mounting Technology: Surface Mount; Code_JEDEC: MO-150-AH; ComponentLink1Description: Manufacturer URL; ComponentLink1URL: http://www.analog.com/en/index.html; ComponentLink2Description: Datasheet; ComponentLink2URL: http://www.analog.com/static/imported-files/data_sheets/AD9059.pdf; ComponentLink3Description: Package Specification; ComponentLink3URL: http://www.analog.com/static/imported-files/packages/32122249223724RS_28.pdf; ComponentLink4Description: Product URL; ComponentLink4URL: http://www.analog.com/en/analog-to-digital-converters/ad-converters/ad9059/products/product.html
footprint RS-28_N (SOP, 28-Leads, Body 10.2x5.3mm, Pitch 0.65mm, IPC Medium Density)
footprint RS-28_L (SOP, 28-Leads, Body 10.2x5.3mm, Pitch 0.65mm, IPC High Density)
footprint RS-28_M (SOP, 28-Leads, Body 10.2x5.3mm, Pitch 0.65mm, IPC Low Density)
pins: 1 AINA (in) "Analog Inputs for ADC A and B.", 2 VREF (io) "Internal Voltage Reference (2.5 V Typical); Bypass with 0.1 uF to Ground or Overdrive with External Voltage Reference.", 3 PWRDN (in) "Power-Down Function Select; Logic HIGH for Power-Down Mode (Digital Outputs Go to High-Impedance State).", 4 VD (power) "Analog 5 V Power Supply.", 5 GND (power) "Ground.", 6 VDD (power) "Digital Output Power Supply.Nominally 3 V to 5 V.", 7 D7A (hiz) "Digital Outputs of ADC A.", 8 D6A (hiz) "Digital Outputs of ADC A.", 9 D5A (hiz) "Digital Outputs of ADC A.", 10 D4A (hiz) "Digital Outputs of ADC A.", 11 D3A (hiz) "Digital Outputs of ADC A.", 12 D2A (hiz) "Digital Outputs of ADC A.", 13 D1A (hiz) "Digital Outputs of ADC A.", 14 D0A (hiz) "Digital Outputs of ADC A.", 15 D0B (hiz) "Digital Outputs of ADC B.", 16 D1B (hiz) "Digital Outputs of ADC B.", 17 D2B (hiz) "Digital Outputs of ADC B.", 18 D3B (hiz) "Digital Outputs of ADC B.", 19 D4B (hiz) "Digital Outputs of ADC B.", 20 D5B (hiz) "Digital Outputs of ADC B.", 21 D6B (hiz) "Digital Outputs of ADC B.", 22 D7B (hiz) "Digital Outputs of ADC B.", 23 VDD (power) "Digital Output Power Supply.Nominally 3 V to 5 V.", 24 GND (power) "Ground.", 25 VD (power) "Analog 5 V Power Supply.", 26 ENCODE (in) "Encode Clock for ADCs A and B (ADCs Sample Simultaneously on the Rising Edge of ENCODE).", 27 GND (power) "Ground.", 28 AINB (in) "Analog Inputs for ADC A and B."

## AD9059BRSZ-REEL
designator U?
Dual 8-Bit Analog-to-Digital Converter with Parallel Interface, 60MSPS, -40 to +85 degC, RS-28, Pb-Free, Reel; Part Number: AD9059; Manufacturer: Analog Devices; Resolution (Bits): 8; Channels: 2; Throughput Rate (SPS): 60M; Interface: Par; DatasheetVersion: Rev.A; PackageVersion: 060106-A; PackageReference: RS-28; PackageDescription: 28-Lead Shrink Small Outline Package [SSOP]; RoHS: Y; Packing: Reel; Mounting Technology: Surface Mount; Code_JEDEC: MO-150-AH; ComponentLink1Description: Manufacturer URL; ComponentLink1URL: http://www.analog.com/en/index.html; ComponentLink2Description: Datasheet; ComponentLink2URL: http://www.analog.com/static/imported-files/data_sheets/AD9059.pdf; ComponentLink3Description: Package Specification; ComponentLink3URL: http://www.analog.com/static/imported-files/packages/32122249223724RS_28.pdf; ComponentLink4Description: Product URL; ComponentLink4URL: http://www.analog.com/en/analog-to-digital-converters/ad-converters/ad9059/products/product.html
footprint RS-28_N (SOP, 28-Leads, Body 10.2x5.3mm, Pitch 0.65mm, IPC Medium Density)
footprint RS-28_L (SOP, 28-Leads, Body 10.2x5.3mm, Pitch 0.65mm, IPC High Density)
footprint RS-28_M (SOP, 28-Leads, Body 10.2x5.3mm, Pitch 0.65mm, IPC Low Density)
pins: 1 AINA (in) "Analog Inputs for ADC A and B.", 2 VREF (io) "Internal Voltage Reference (2.5 V Typical); Bypass with 0.1 uF to Ground or Overdrive with External Voltage Reference.", 3 PWRDN (in) "Power-Down Function Select; Logic HIGH for Power-Down Mode (Digital Outputs Go to High-Impedance State).", 4 VD (power) "Analog 5 V Power Supply.", 5 GND (power) "Ground.", 6 VDD (power) "Digital Output Power Supply.Nominally 3 V to 5 V.", 7 D7A (hiz) "Digital Outputs of ADC A.", 8 D6A (hiz) "Digital Outputs of ADC A.", 9 D5A (hiz) "Digital Outputs of ADC A.", 10 D4A (hiz) "Digital Outputs of ADC A.", 11 D3A (hiz) "Digital Outputs of ADC A.", 12 D2A (hiz) "Digital Outputs of ADC A.", 13 D1A (hiz) "Digital Outputs of ADC A.", 14 D0A (hiz) "Digital Outputs of ADC A.", 15 D0B (hiz) "Digital Outputs of ADC B.", 16 D1B (hiz) "Digital Outputs of ADC B.", 17 D2B (hiz) "Digital Outputs of ADC B.", 18 D3B (hiz) "Digital Outputs of ADC B.", 19 D4B (hiz) "Digital Outputs of ADC B.", 20 D5B (hiz) "Digital Outputs of ADC B.", 21 D6B (hiz) "Digital Outputs of ADC B.", 22 D7B (hiz) "Digital Outputs of ADC B.", 23 VDD (power) "Digital Output Power Supply.Nominally 3 V to 5 V.", 24 GND (power) "Ground.", 25 VD (power) "Analog 5 V Power Supply.", 26 ENCODE (in) "Encode Clock for ADCs A and B (ADCs Sample Simultaneously on the Rising Edge of ENCODE).", 27 GND (power) "Ground.", 28 AINB (in) "Analog Inputs for ADC A and B."

## AD9200ARS
designator U?
Single 10-Bit Analog-to-Digital Converter with Parallel Interface, 80 mW, CMOS, 20MSPS, -40 to +85 degC, RS-28, Tube; Part Number: AD9200; Manufacturer: Analog Devices; Resolution (Bits): 10; Channels: 1; Throughput Rate (SPS): 20M; Interface: Par; DatasheetVersion: Rev.E; PackageVersion: 060106-A; PackageReference: RS-28; PackageDescription: 28-Lead Shrink Small Outline Package [SSOP]; RoHS: N; Packing: Tube; Mounting Technology: Surface Mount; Code_JEDEC: MO-150-AH; ComponentLink1Description: Manufacturer URL; ComponentLink1URL: http://www.analog.com/en/index.html; ComponentLink2Description: Datasheet; ComponentLink2URL: http://www.analog.com/static/imported-files/data_sheets/AD9200.pdf; ComponentLink3Description: Package Specification; ComponentLink3URL: http://www.analog.com/static/imported-files/packages/32122249223724RS_28.pdf; ComponentLink4Description: Product URL; ComponentLink4URL: http://www.analog.com/en/analog-to-digital-converters/ad-converters/ad9200/products/product.html
footprint RS-28_N (SOP, 28-Leads, Body 10.2x5.3mm, Pitch 0.65mm, IPC Medium Density)
footprint RS-28_L (SOP, 28-Leads, Body 10.2x5.3mm, Pitch 0.65mm, IPC High Density)
footprint RS-28_M (SOP, 28-Leads, Body 10.2x5.3mm, Pitch 0.65mm, IPC Low Density)
pins: 1 AVSS (power) "Analog Ground", 2 DRVDD (power) "Digital Driver Supply", 3 D0 (hiz) "Bit 0, Least Significant Bit", 4 D1 (hiz) "Bit 1", 5 D2 (hiz) "Bit 2", 6 D3 (hiz) "Bit 3", 7 D4 (hiz) "Bit 4", 8 D5 (hiz) "Bit 5", 9 D6 (hiz) "Bit 6", 10 D7 (hiz) "Bit 7", 11 D8 (hiz) "Bit 8", 12 D9 (hiz) "Bit 9, Most Significant Bit", 13 OTR (hiz) "Out-of-Range Indicator", 14 DRVSS (power) "Digital Ground", 15 CLK (in) "Clock Input", 16 THREE-STATE (in) "HI: High Impedance State. LO: Normal Operation", 17 STBY (in) "HI: Power-Down Mode. LO: Normal Operation", 18 REFSENSE (in) "Reference Select", 19 CLAMP (in) "HI: Enable Clamp Mode. LO: No Clamp", 20 CLAMPIN (in) "Clamp Reference Input", 21 REFTS "Top Reference", 22 REFTF "Top Reference Decoupling", 23 MODE (in) "Mode Select", 24 REFBF "Bottom Reference Decoupling", 25 REFBS "Bottom Reference", 26 VREF (out) "Internal Reference Output", 27 AIN (in) "Analog Input", 28 AVDD (power) "Analog Supply"

## AD9200ARSZ
designator U?
Single 10-Bit Analog-to-Digital Converter with Parallel Interface, 80 mW, CMOS, 20MSPS, -40 to +85 degC, RS-28, Pb-Free, Tube; Part Number: AD9200; Manufacturer: Analog Devices; Resolution (Bits): 10; Channels: 1; Throughput Rate (SPS): 20M; Interface: Par; DatasheetVersion: Rev.E; PackageVersion: 060106-A; PackageReference: RS-28; PackageDescription: 28-Lead Shrink Small Outline Package [SSOP]; RoHS: Y; Packing: Tube; Mounting Technology: Surface Mount; Code_JEDEC: MO-150-AH; ComponentLink1Description: Manufacturer URL; ComponentLink1URL: http://www.analog.com/en/index.html; ComponentLink2Description: Datasheet; ComponentLink2URL: http://www.analog.com/static/imported-files/data_sheets/AD9200.pdf; ComponentLink3Description: Package Specification; ComponentLink3URL: http://www.analog.com/static/imported-files/packages/32122249223724RS_28.pdf; ComponentLink4Description: Product URL; ComponentLink4URL: http://www.analog.com/en/analog-to-digital-converters/ad-converters/ad9200/products/product.html
footprint RS-28_N (SOP, 28-Leads, Body 10.2x5.3mm, Pitch 0.65mm, IPC Medium Density)
footprint RS-28_L (SOP, 28-Leads, Body 10.2x5.3mm, Pitch 0.65mm, IPC High Density)
footprint RS-28_M (SOP, 28-Leads, Body 10.2x5.3mm, Pitch 0.65mm, IPC Low Density)
pins: 1 AVSS (power) "Analog Ground", 2 DRVDD (power) "Digital Driver Supply", 3 D0 (hiz) "Bit 0, Least Significant Bit", 4 D1 (hiz) "Bit 1", 5 D2 (hiz) "Bit 2", 6 D3 (hiz) "Bit 3", 7 D4 (hiz) "Bit 4", 8 D5 (hiz) "Bit 5", 9 D6 (hiz) "Bit 6", 10 D7 (hiz) "Bit 7", 11 D8 (hiz) "Bit 8", 12 D9 (hiz) "Bit 9, Most Significant Bit", 13 OTR (hiz) "Out-of-Range Indicator", 14 DRVSS (power) "Digital Ground", 15 CLK (in) "Clock Input", 16 THREE-STATE (in) "HI: High Impedance State. LO: Normal Operation", 17 STBY (in) "HI: Power-Down Mode. LO: Normal Operation", 18 REFSENSE (in) "Reference Select", 19 CLAMP (in) "HI: Enable Clamp Mode. LO: No Clamp", 20 CLAMPIN (in) "Clamp Reference Input", 21 REFTS "Top Reference", 22 REFTF "Top Reference Decoupling", 23 MODE (in) "Mode Select", 24 REFBF "Bottom Reference Decoupling", 25 REFBS "Bottom Reference", 26 VREF (out) "Internal Reference Output", 27 AIN (in) "Analog Input", 28 AVDD (power) "Analog Supply"

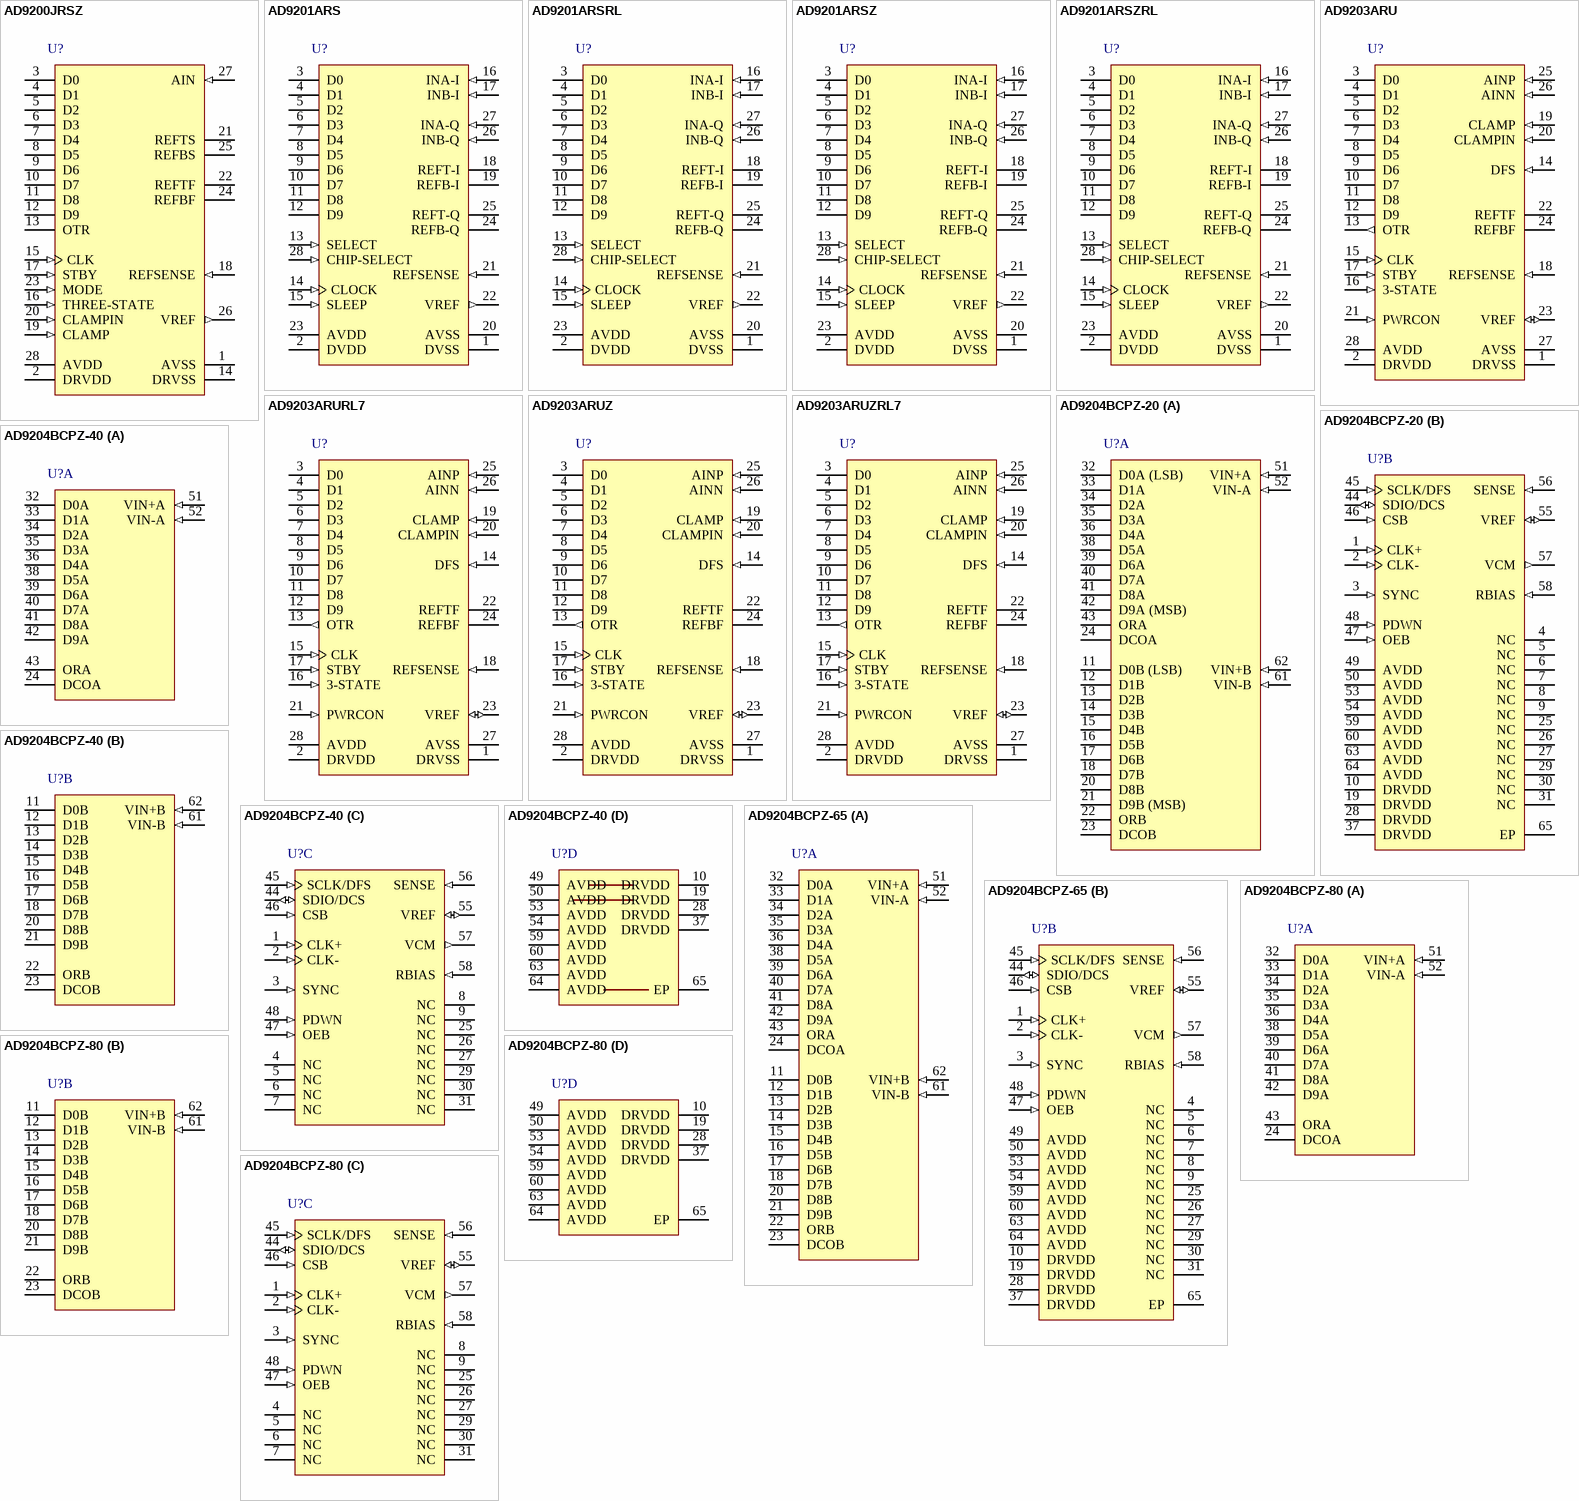
[diagram p97: symbols AD9200JRSZ to AD9204BCPZ-80]

## AD9200JRSZ
designator U?
Single 10-Bit Analog-to-Digital Converter with Parallel Interface, 80 mW, CMOS, 20MSPS, 0 to +70 degC, RS-28, Pb-Free, Tube; Part Number: AD9200; Manufacturer: Analog Devices; Resolution (Bits): 10; Channels: 1; Throughput Rate (SPS): 20M; Interface: Par; DatasheetVersion: Rev.E; PackageVersion: 060106-A; PackageReference: RS-28; PackageDescription: 28-Lead Shrink Small Outline Package [SSOP]; RoHS: Y; Packing: Tube; Mounting Technology: Surface Mount; Code_JEDEC: MO-150-AH; ComponentLink1Description: Manufacturer URL; ComponentLink1URL: http://www.analog.com/en/index.html; ComponentLink2Description: Datasheet; ComponentLink2URL: http://www.analog.com/static/imported-files/data_sheets/AD9200.pdf; ComponentLink3Description: Package Specification; ComponentLink3URL: http://www.analog.com/static/imported-files/packages/32122249223724RS_28.pdf; ComponentLink4Description: Product URL; ComponentLink4URL: http://www.analog.com/en/analog-to-digital-converters/ad-converters/ad9200/products/product.html
footprint RS-28_N (SOP, 28-Leads, Body 10.2x5.3mm, Pitch 0.65mm, IPC Medium Density)
footprint RS-28_L (SOP, 28-Leads, Body 10.2x5.3mm, Pitch 0.65mm, IPC High Density)
footprint RS-28_M (SOP, 28-Leads, Body 10.2x5.3mm, Pitch 0.65mm, IPC Low Density)
pins: 1 AVSS (power) "Analog Ground", 2 DRVDD (power) "Digital Driver Supply", 3 D0 (hiz) "Bit 0, Least Significant Bit", 4 D1 (hiz) "Bit 1", 5 D2 (hiz) "Bit 2", 6 D3 (hiz) "Bit 3", 7 D4 (hiz) "Bit 4", 8 D5 (hiz) "Bit 5", 9 D6 (hiz) "Bit 6", 10 D7 (hiz) "Bit 7", 11 D8 (hiz) "Bit 8", 12 D9 (hiz) "Bit 9, Most Significant Bit", 13 OTR (hiz) "Out-of-Range Indicator", 14 DRVSS (power) "Digital Ground", 15 CLK (in) "Clock Input", 16 THREE-STATE (in) "HI: High Impedance State. LO: Normal Operation", 17 STBY (in) "HI: Power-Down Mode. LO: Normal Operation", 18 REFSENSE (in) "Reference Select", 19 CLAMP (in) "HI: Enable Clamp Mode. LO: No Clamp", 20 CLAMPIN (in) "Clamp Reference Input", 21 REFTS "Top Reference", 22 REFTF "Top Reference Decoupling", 23 MODE (in) "Mode Select", 24 REFBF "Bottom Reference Decoupling", 25 REFBS "Bottom Reference", 26 VREF (out) "Internal Reference Output", 27 AIN (in) "Analog Input", 28 AVDD (power) "Analog Supply"

## AD9201ARS
designator U?
Dual 10-Bit Analog-to-Digital Converter with Parallel Interface, 20MSPS, -40 to +85 degC, RS-28, Tube; Part Number: AD9201; Manufacturer: Analog Devices; Resolution (Bits): 10; Channels: 2; Throughput Rate (SPS): 20M; Interface: Par; DatasheetVersion: Rev.D; PackageVersion: 060106-A; PackageReference: RS-28; PackageDescription: 28-Lead Shrink Small Outline Package [SSOP]; RoHS: N; Packing: Tube; Mounting Technology: Surface Mount; Code_JEDEC: MO-150-AH; ComponentLink1Description: Manufacturer URL; ComponentLink1URL: http://www.analog.com/en/index.html; ComponentLink2Description: Datasheet; ComponentLink2URL: http://www.analog.com/static/imported-files/data_sheets/AD9201.pdf; ComponentLink3Description: Package Specification; ComponentLink3URL: http://www.analog.com/static/imported-files/packages/32122249223724RS_28.pdf; ComponentLink4Description: Product URL; ComponentLink4URL: http://www.analog.com/en/analog-to-digital-converters/ad-converters/ad9201/products/product.html
footprint RS-28_N (SOP, 28-Leads, Body 10.2x5.3mm, Pitch 0.65mm, IPC Medium Density)
footprint RS-28_L (SOP, 28-Leads, Body 10.2x5.3mm, Pitch 0.65mm, IPC High Density)
footprint RS-28_M (SOP, 28-Leads, Body 10.2x5.3mm, Pitch 0.65mm, IPC Low Density)
pins: 1 DVSS (power) "Digital Ground", 2 DVDD (power) "Digital Supply", 3 D0 (hiz) "Bit 0 (LSB)", 4 D1 (hiz) "Bit 1", 5 D2 (hiz) "Bit 2", 6 D3 (hiz) "Bit 3", 7 D4 (hiz) "Bit 4", 8 D5 (hiz) "Bit 5", 9 D6 (hiz) "Bit 6", 10 D7 (hiz) "Bit 7", 11 D8 (hiz) "Bit 8", 12 D9 (hiz) "Bit 9 (MSB)", 13 SELECT (in) "Hi I Channel Out, Lo Q Channel Out", 14 CLOCK (in) "Clock", 15 SLEEP (in) "Hi Power Down, Lo Normal Operation", 16 INA-I (in) "I Channel, A Input", 17 INB-I (in) "I Channel, B Input", 18 REFT-I "Top Reference Decoupling, I Channel", 19 REFB-I "Bottom Reference Decoupling, I Channel", 20 AVSS (power) "Analog Ground", 21 REFSENSE (in) "Reference Select", 22 VREF (out) "Internal Reference Output", 23 AVDD (power) "Analog Supply", 24 REFB-Q "Bottom Reference Decoupling, Q Channel", 25 REFT-Q "Top Reference Decoupling, Q Channel", 26 INB-Q (in) "Q Channel, B Input", 27 INA-Q (in) "Q Channel, A Input", 28 CHIP-SELECT (in) "Hi-High Impedance, Lo-Normal Operation"